# Altium schematic symbol library SRN8040TA-820M.SchLib: 1 symbol
Pins are listed as number, name and electrical type; pins without a type are passive.

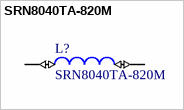
[diagram p0: symbol SRN8040TA-820M]

## SRN8040TA-820M
designator L?
Inductor Power Semi-Shielded Wirewound 82uH 20% 1MHz 12Q-Factor Ferrite 1.4A 230mOhm DCR 3131 Automotive T/R; Manufacturer_Name: Bourns; Geometry.Height: 4.1mm; Manufacturer_Part_Number: SRN8040TA-820M; RS Part Number: *; RS Price/Stock: *; Arrow Part Number: SRN8040TA-820M; Arrow Price/Stock: *; Datasheet Link: https://www.arrow.com/en/products/srn8040ta-820m/bourns
footprint INDC8566X410N
pins: 1 (io), 2 (io)